# Altium schematic symbol library MAX31856MUD.SchLib: 1 symbol
Pins are listed as number, name and electrical type; pins without a type are passive.

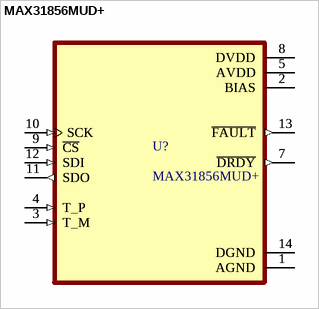
[diagram p0: symbol MAX31856MUD+]

## MAX31856MUD+
designator U?
footprint PCBComponent_1
pins: 1 AGND (power), 1 AGND (power), 2 BIAS (power), 2 BIAS (power), 3 T_M (in), 3 T_M (in), 4 T_P (in), 4 T_P (in), 5 AVDD (power), 5 AVDD (power), 7 ~{DRDY} (out), 7 ~{DRDY} (out), 8 DVDD (power), 8 DVDD (power), 9 ~{CS} (in), 9 ~{CS} (in), 10 SCK (in), 10 SCK (in), 11 SDO (out), 11 SDO (out), 12 SDI (in), 12 SDI (in), 13 ~{FAULT} (out), 13 ~{FAULT} (out), 14 DGND (power), 14 DGND (power)